# EAGLE library part SSM2142 (library analog-devices)
Balanced Line Driver
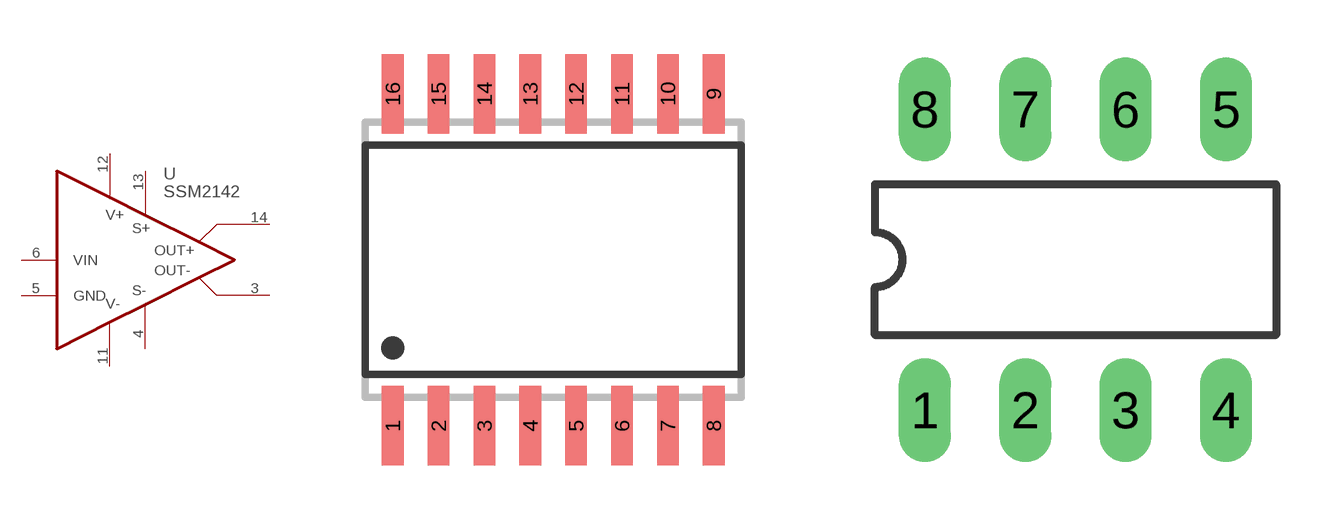
[diagram p31: symbol with the pads of SO16W; footprints SO16W, DIL08]

Designator prefix U

## SSM2142S  [SO16W]
3  FORCE-  out
4  SENSE-  pas
5  GND  in
6  VIN  in
11  V-  pwr
12  V+  pwr
13  SENSE+  out
14  FORCE+  out

## SSM2142P  [DIL08]
1  FORCE-  out
2  SENSE-  pas
3  GND  in
4  VIN  in
5  V-  pwr
6  V+  pwr
7  SENSE+  out
8  FORCE+  out

## Footprint SO16W (pad centres in mm)
SMALL OUTLINE INTEGRATED CIRCUIT wide body 7.5 mm/JEDEC MS-013AA
smd 0.6 x 2.2: 1 -4.445,-4.6; 2 -3.175,-4.6; 3 -1.905,-4.6; 4 -0.635,-4.6; 5 0.635,-4.6; 6 1.905,-4.6; 7 3.175,-4.6; 8 4.445,-4.6; 9 4.445,4.6; 10 3.175,4.6; 11 1.905,4.6; 12 0.635,4.6; 13 -0.635,4.6; 14 -1.905,4.6; 15 -3.175,4.6; 16 -4.445,4.6

## Footprint DIL08 (pad centres in mm)
Dual In Line Package
drill 0.813 long: 1 -3.81,-3.81; 2 -1.27,-3.81; 3 1.27,-3.81; 4 3.81,-3.81; 5 3.81,3.81; 6 1.27,3.81; 7 -1.27,3.81; 8 -3.81,3.81